# EAGLE library part 64902021022 (library Wire-to-Board (rev18a))
WR-MPC4-4.20mm Male Dual Row Angled Header with Mounting Flanges for Screw-in Retention,20 pins=>Code : Con_WTB_MPC4_2_PCB_64902021022 <http://katalog.we-online.de/media/thumbs2/eican/thb_Con_WTB_MPC4_2_PCB_6490xx21022_pf2.jpg> Details see: http://katalog.we-online.de/en/em/MPC4_4_20_MALE_DUAL_ROW_ANGLED_HEADER_W_MOUNTING_FLANGES_6490XX21022 Created 2014-06-06, Karrer Zheng 2014 (C) Würth Elektronik
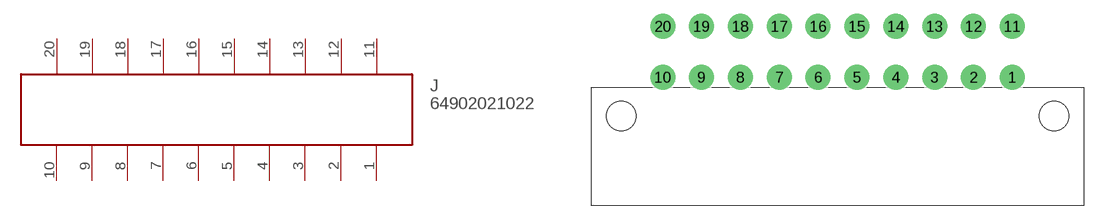
[diagram p310: symbol with the pads of 64902021022; footprint 64902021022]

Designator prefix J

## 64902021022  [64902021022]
1  1
2  2
3  3
4  4
5  5
6  6
7  7
8  8
9  9
10  10
11  11
12  12
13  13
14  14
15  15
16  16
17  17
18  18
19  19
20  20

## Footprint 64902021022 (pad centres in mm)
WR-MPC4-4.20mm Male Dual Row Angled Header with Mounting Flanges for Screw-in Retention,20 pins
drill 1.8: 1 18.9,4.2; 2 14.7,4.2; 3 10.5,4.2; 4 6.3,4.2; 5 2.1,4.2; 6 -2.1,4.2; 7 -6.3,4.2; 8 -10.5,4.2; 9 -14.7,4.2; 10 -18.9,4.2; 11 18.9,9.7; 12 14.7,9.7; 13 10.5,9.7; 14 6.3,9.7; 15 2.1,9.7; 16 -2.1,9.7; 17 -6.3,9.7; 18 -10.5,9.7; 19 -14.7,9.7; 20 -18.9,9.7
hole 3.2 at -23.4,0
hole 3.2 at 23.4,0